# Altium footprint library SS_Connectors.PcbLib: 234 footprints (part 1 of 15)
Each footprint in its own frame and in the unit in brackets; x right, y up, seen from the top. Pads: shape width x height; smd on the part's side, far side on the other; paste and mask are expansions set on the pad; w line width, h text height; cw(c..) or ccw(c..) is an arc to the next point about the centre after c.
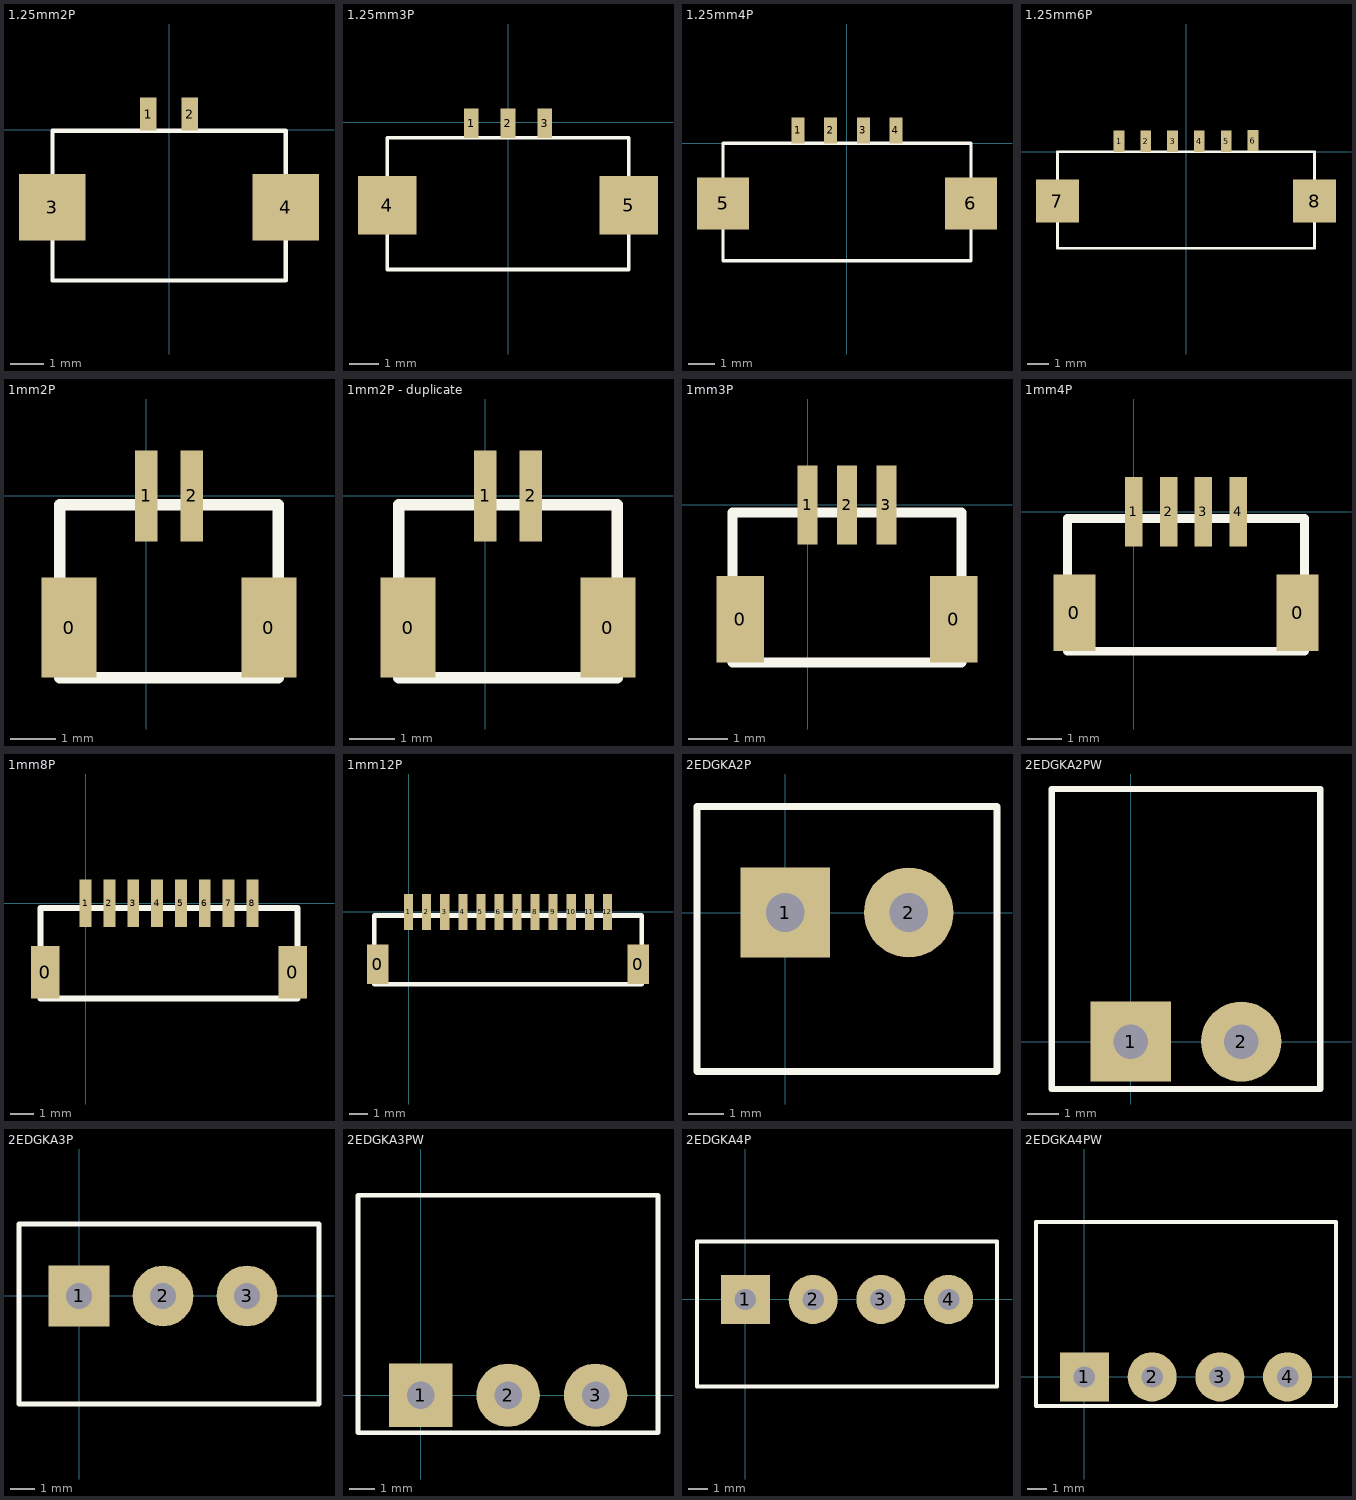
[diagram p0: the footprints below, top view; thin cyan lines are the x and y axes]

## 1.25mm2P [mm]
pads (4):
  rect 0.5x1 smd: 1(-0.625,0.475) 2(0.625,0.475)
  rect 2x2 smd: 3(-3.5,-2.325) 4(3.5,-2.325)
Top Overlay:
  lines w0.125: -3.5,-4.525 3.5,-4.525 3.5,-0.025 -3.5,-0.025 -3.5,-4.525

## 1.25mm3P [mm]
pads (5):
  rect 0.5x1 smd: 1(-1.25,-0.025) 2(0,-0.025) 3(1.25,-0.025)
  rect 2x2 smd: 4(-4.125,-2.825) 5(4.125,-2.825)
Top Overlay:
  lines w0.125: -4.125,-5.025 -4.125,-0.525 4.125,-0.525 4.125,-5.025 -4.125,-5.025

## 1.25mm4P [mm]
pads (6):
  rect 0.5x1 smd: 1(-1.875,0.5) 2(-0.625,0.5) 3(0.625,0.5) 4(1.875,0.5)
  rect 2x2 smd: 5(-4.75,-2.3) 6(4.75,-2.3)
Top Overlay:
  lines w0.125: -4.75,-4.5 4.75,-4.5 4.75,0 -4.75,0 -4.75,-4.5

## 1.25mm6P [mm]
pads (8):
  rect 0.5x1 smd: 1(-3.125,0.5) 2(-1.875,0.5) 3(-0.625,0.5) 4(0.625,0.5) 5(1.875,0.5) 6(3.125,0.525)
  rect 2x2 smd: 7(-6,-2.3) 8(6,-2.3)
Top Overlay:
  lines w0.125: -6,-4.5 6,-4.5 6,0 -6,0 -6,-4.5

## 1mm2P [mm]
pads (4):
  rect 1.2x2.2 smd: 0(-1.7,-2.9) 0(2.7,-2.9)
  rect 0.5x2 smd: 1(0,0) 2(1,0)
Top Overlay:
  lines w0.254: -1.9,-4 -1.9,-0.2 2.6,-0.2 2.9,-0.2 2.9,-4 -1.9,-4

## 1mm2P - duplicate [mm]
pads (4):
  rect 1.2x2.2 smd: 0(-1.7,-2.9) 0(2.7,-2.9)
  rect 0.5x2 smd: 1(0,0) 2(1,0)
Top Overlay:
  lines w0.254: -1.9,-4 -1.9,-0.2 2.6,-0.2 2.9,-0.2 2.9,-4 -1.9,-4

## 1mm3P [mm]
pads (5):
  rect 1.2x2.2 smd: 0(-1.7,-2.9) 0(3.7,-2.9)
  rect 0.5x2 smd: 1(0,0) 2(1,0) 3(2,0)
Top Overlay:
  lines w0.254: -1.9,-4 -1.9,-0.2 2.6,-0.2 3.9,-0.2 3.9,-4 -1.9,-4

## 1mm4P [mm]
pads (6):
  rect 1.2x2.2 smd: 0(-1.7,-2.9) 0(4.7,-2.9)
  rect 0.5x2 smd: 1(0,0) 2(1,0) 3(2,0) 4(3,0)
Top Overlay:
  lines w0.254: -1.9,-4 4.9,-4 4.9,-0.2 2.6,-0.2 -1.9,-0.2 -1.9,-4

## 1mm8P [mm]
pads (10):
  rect 1.2x2.2 smd: 0(-1.7,-2.9) 0(8.7,-2.9)
  rect 0.5x2 smd: 1(0,0) 2(1,0) 3(2,0) 4(3,0) 5(4,0) 6(5,0) 7(6,0) 8(7,0)
Top Overlay:
  lines w0.254: -1.9,-4 -1.9,-0.2 2.6,-0.2 8.9,-0.2 8.9,-4 -1.9,-4

## 1mm12P [mm]
pads (14):
  rect 1.2x2.2 smd: 0(-1.7,-2.9) 0(12.7,-2.9)
  rect 0.5x2 smd: 1(0,0) 2(1,0) 3(2,0) 4(3,0) 5(4,0) 6(5,0) 7(6,0) 8(7,0) 9(8,0) 10(9,0) 11(10,0) 12(11,0)
Top Overlay:
  lines w0.254: -1.9,-4 12.9,-4 12.9,-0.2 2.6,-0.2 -1.9,-0.2 -1.9,-4

## 2EDGKA2P [mm]
pads (2):
  rect 2.54x2.54 hole 1.1: 1(0,0)
  round 2.54 hole 1.1: 2(3.5,0)
Top Overlay:
  lines w0.2: -2.5,-4.5 -2.5,3 6,3 6,-4.5 -2.5,-4.5

## 2EDGKA2PW [mm]
pads (2):
  rect 2.54x2.54 hole 1.1: 1(0,0)
  round 2.54 hole 1.1: 2(3.5,0)
Top Overlay:
  lines w0.2: -2.5,-1.5 -2.5,8 6,8 6,-1.5 -2.5,-1.5

## 2EDGKA3P [mm]
pads (3):
  rect 2.54x2.54 hole 1.1: 1(0,0)
  round 2.54 hole 1.1: 2(3.5,0) 3(7,0)
Top Overlay:
  lines w0.2: -2.5,-4.5 -2.5,3 10,3 10,-4.5 -2.5,-4.5

## 2EDGKA3PW [mm]
pads (3):
  rect 2.54x2.54 hole 1.1: 1(0,0)
  round 2.54 hole 1.1: 2(3.5,0) 3(7,0)
Top Overlay:
  lines w0.2: -2.5,-1.5 -2.5,8 9.5,8 9.5,-1.5 -2.5,-1.5

## 2EDGKA4P [mm]
pads (4):
  rect 2.54x2.54 hole 1.1: 1(0,0)
  round 2.54 hole 1.1: 2(3.5,0) 3(7,0) 4(10.5,0)
Top Overlay:
  lines w0.2: -2.5,-4.5 -2.5,3 13,3 13,-4.5 -2.5,-4.5

## 2EDGKA4PW [mm]
pads (4):
  rect 2.54x2.54 hole 1.1: 1(0,0)
  round 2.54 hole 1.1: 2(3.5,0) 3(7,0) 4(10.5,0)
Top Overlay:
  lines w0.2: -2.5,-1.5 13,-1.5 13,8 -2.5,8 -2.5,-1.5